# EAGLE library part ADUM1251ARZ-RL7 (library NASA_LIB)
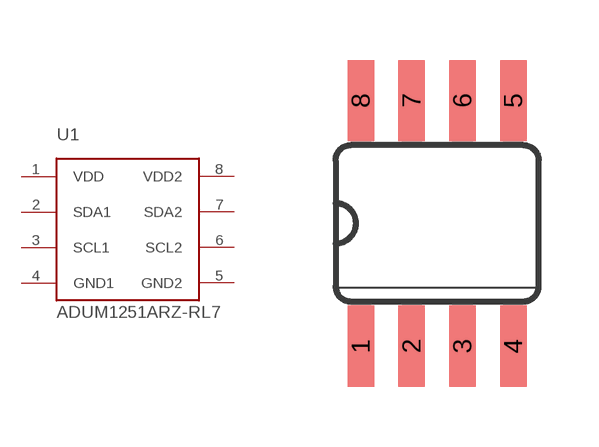
[diagram p41: symbol with the pads of SO08; footprint SO08]

Designator prefix U1

## ADUM1251ARZ-RL7  [SO08]
1  VDD
2  SDA1
3  SCL1
4  GND1
5  GND2
6  SCL2
7  SDA2
8  VDD2

## Footprint SO08 (pad centres in mm)
smd 0.66 x 2.032: 1 -1.905,-3.073; 2 -0.635,-3.073; 3 0.635,-3.073; 4 1.905,-3.073; 5 1.905,3.073; 6 0.635,3.073; 7 -0.635,3.073; 8 -1.905,3.073